# Altium integrated library TI Power Management Step-Up Regulator.IntLib: 226 symbols (part 3 of 11)
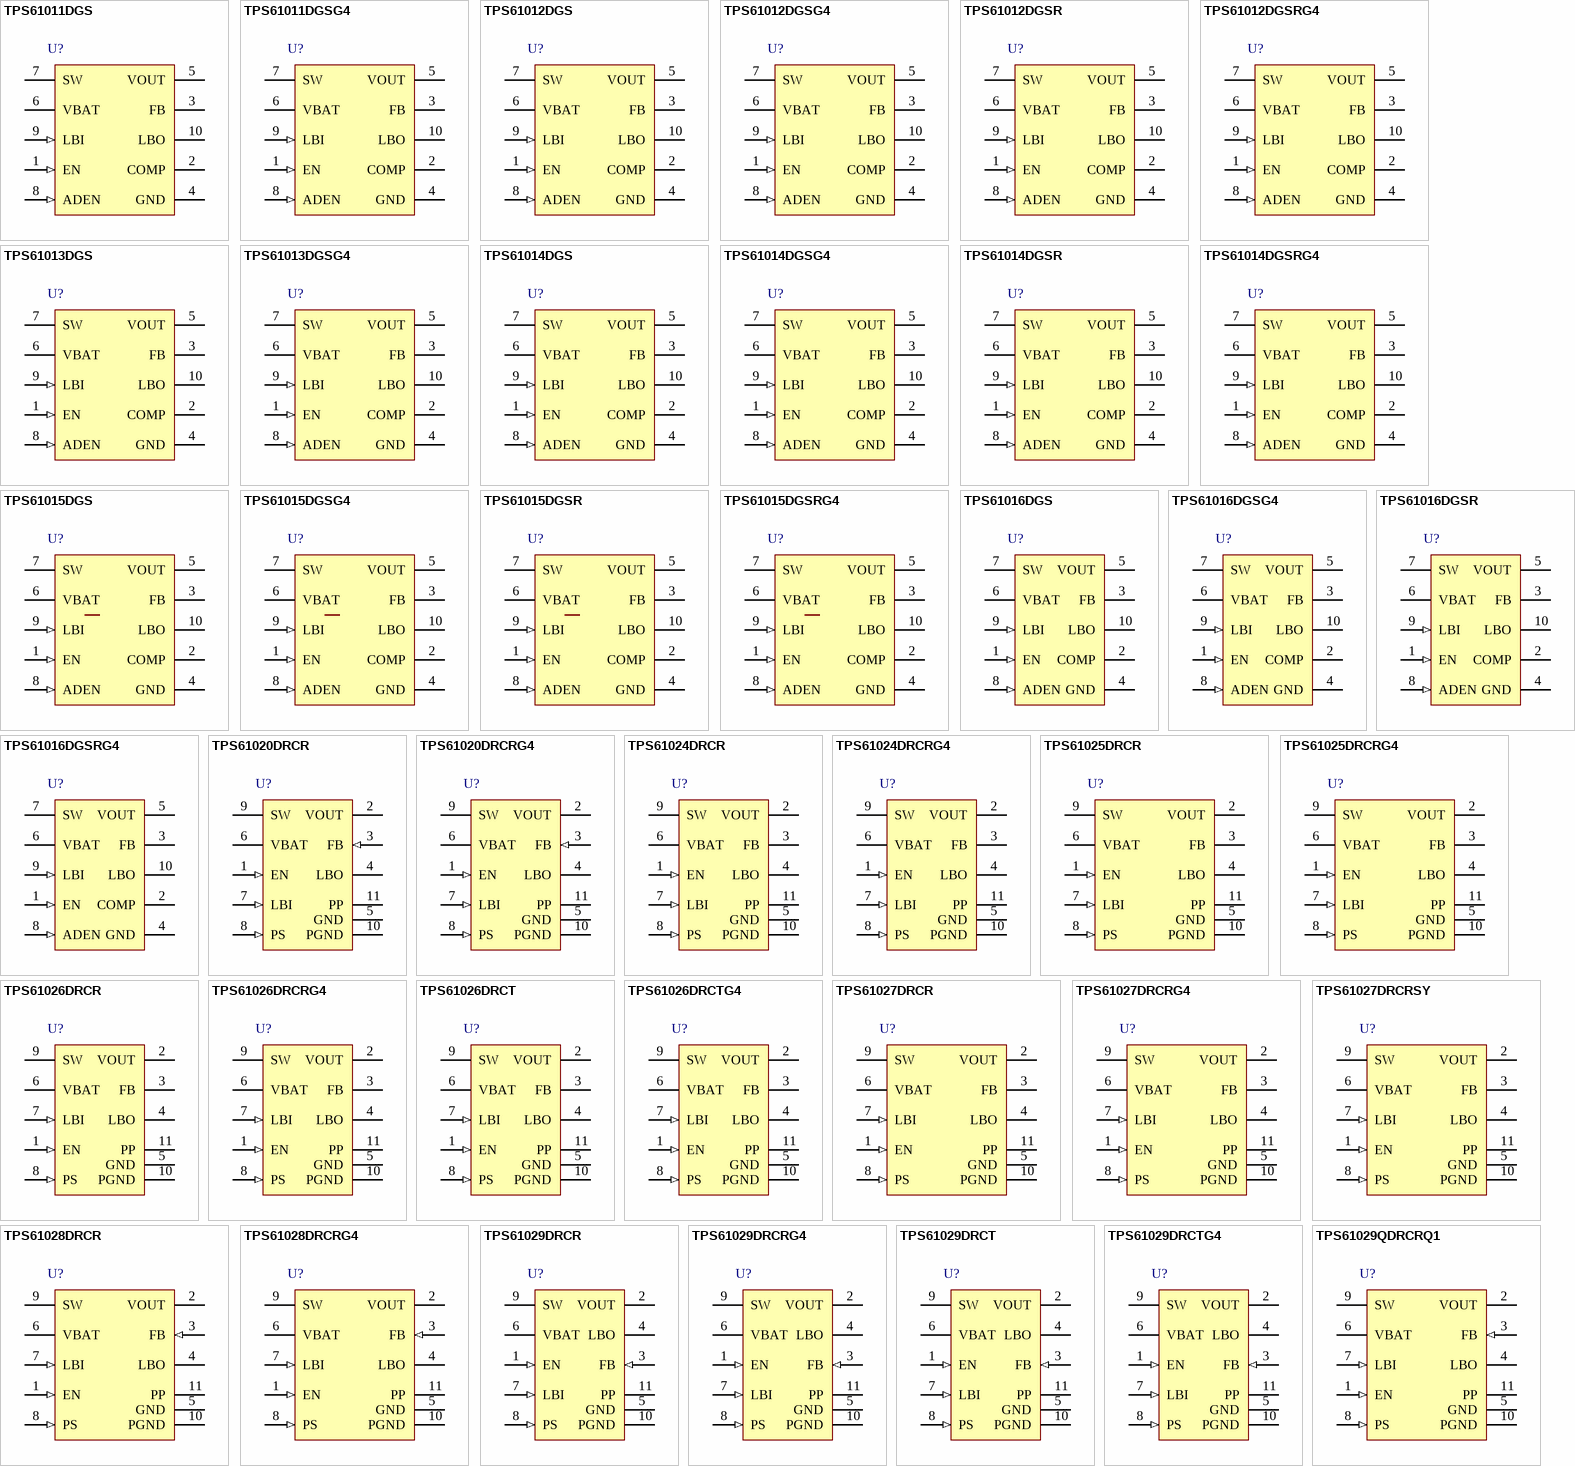
[diagram p8: symbols TPS61011DGS to TPS61029QDRCRQ1]

## TPS61012DGSR
designator U?
Boost Fixed Converter with 0.8 to 1.8 V Input and 1.8 V Output, -40 to 85 degC, 10-Pin MSOP (DGS), Green (RoHS & no Sb/Br); Manufacturer: Texas Instruments; PartNumber: TPS61012DGSR; Preset Vout(V): 1.8; Regulated Outputs(#): 1; SubFamily: Step-Up Regulator; Switching Frequency(Max)(kHz): 780; Synchronous Rectification: TRUE; Vin(Min)(V): 0.8; DatasheetVersion: SLVS314D; PackageVersion: revC, Feb-2004; PackageReference: DGS10; PackageDescription: 10-Pin Thin Shrink Small Outline Package 0.5 mm Pitch; Supplier 1: Digi-Key; Supplier Part Number 1: TPS61012DGSR-ND; Supplier 2: Newark; Supplier Part Number 2: 77C0660; Supplier 3: Mouser; Supplier Part Number 3: 595-TPS61012DGSR; Eco-Plan: Green (RoHS & no Sb/Br); Topology: Boost; Vin(Max)(V): 1.8; Vout(Max)(V): 1.8; Vout(Min)(V): 1.8; Mounting Technology: Surface Mount; Code_JEDEC: MO-187-BA; ComponentLink1Description: Datasheet; ComponentLink1URL: http://www.ti.com/general/docs/lit/getliterature.tsp?genericPartNumber=TPS61012&fileType=pdf; ComponentLink2Description: Package Specification; ComponentLink2URL: http://www.ti.com/litv/pdf/mpds373
footprint DGS10_N (TSSOP, 10-Leads, Body 3x3mm, Pitch 0.5mm, IPC Medium Density)
footprint DGS10_L (TSSOP, 10-Leads, Body 3x3mm, Pitch 0.5mm, IPC High Density)
footprint DGS10_M (TSSOP, 10-Leads, Body 3x3mm, Pitch 0.5mm, IPC Low Density)
pins: 1 EN (in) "Chip-enable input. The converter is switched on if this pin is set high, it is switched off if this pin is connected to GND.", 2 COMP "Compensation of error amplifier. Connect an R/C/C network to set frequency response of control loop.", 3 FB "Feedback input for adjustable output voltage version TPS61010. Output voltage is programmed depending on the output voltage divider connected there. For the fixed output voltage versions, leave FB-pin unconnected.", 4 GND (power) "Ground", 5 VOUT (power) "Output voltage. Internal resistor divider sets regulated output voltage in fixed output voltage versions.", 6 VBAT (power) "Supply pin", 7 SW (power) "Switch input pin. The inductor is connected to this pin.", 8 ADEN (in) "Autodischarge input. The autodischarge function is enabled if this pin is connected to VBAT, it is disabled if ADEN is tied to GND.", 9 LBI (in) "Low-battery detector input. A low battery warning is generated at LBO when the voltage on LBI drops below the threshold of 500 mV. Connect LBI to GND or VBAT if the low-battery detector function is not used. Do not leave (See Datasheet)", 10 LBO (hiz) "Open-drain low-battery detector output. This pin is pulled low if the voltage on LBI drops below the threshold of 500 mV. A pullup resistor must be connected between LBO and VOUT."

## TPS61012DGSRG4
designator U?
Boost Fixed Converter with 0.8 to 1.8 V Input and 1.8 V Output, -40 to 85 degC, 10-Pin MSOP (DGS), Green (RoHS & no Sb/Br); Manufacturer: Texas Instruments; PartNumber: TPS61012DGSRG4; Preset Vout(V): 1.8; Regulated Outputs(#): 1; SubFamily: Step-Up Regulator; Switching Frequency(Max)(kHz): 780; Synchronous Rectification: TRUE; Vin(Min)(V): 0.8; DatasheetVersion: SLVS314D; PackageVersion: revC, Feb-2004; PackageReference: DGS10; PackageDescription: 10-Pin Thin Shrink Small Outline Package 0.5 mm Pitch; Supplier 1: Digi-Key; Supplier Part Number 1: TPS61012DGSRG4-ND; Supplier 2: Newark; Supplier Part Number 2: 65J6903; Supplier 3: Mouser; Supplier Part Number 3: 595-TPS61012DGSRG4; Eco-Plan: Green (RoHS & no Sb/Br); Topology: Boost; Vin(Max)(V): 1.8; Vout(Max)(V): 1.8; Vout(Min)(V): 1.8; Mounting Technology: Surface Mount; Code_JEDEC: MO-187-BA; ComponentLink1Description: Datasheet; ComponentLink1URL: http://www.ti.com/general/docs/lit/getliterature.tsp?genericPartNumber=TPS61012&fileType=pdf; ComponentLink2Description: Package Specification; ComponentLink2URL: http://www.ti.com/litv/pdf/mpds373
footprint DGS10_N (TSSOP, 10-Leads, Body 3x3mm, Pitch 0.5mm, IPC Medium Density)
footprint DGS10_L (TSSOP, 10-Leads, Body 3x3mm, Pitch 0.5mm, IPC High Density)
footprint DGS10_M (TSSOP, 10-Leads, Body 3x3mm, Pitch 0.5mm, IPC Low Density)
pins: 1 EN (in) "Chip-enable input. The converter is switched on if this pin is set high, it is switched off if this pin is connected to GND.", 2 COMP "Compensation of error amplifier. Connect an R/C/C network to set frequency response of control loop.", 3 FB "Feedback input for adjustable output voltage version TPS61010. Output voltage is programmed depending on the output voltage divider connected there. For the fixed output voltage versions, leave FB-pin unconnected.", 4 GND (power) "Ground", 5 VOUT (power) "Output voltage. Internal resistor divider sets regulated output voltage in fixed output voltage versions.", 6 VBAT (power) "Supply pin", 7 SW (power) "Switch input pin. The inductor is connected to this pin.", 8 ADEN (in) "Autodischarge input. The autodischarge function is enabled if this pin is connected to VBAT, it is disabled if ADEN is tied to GND.", 9 LBI (in) "Low-battery detector input. A low battery warning is generated at LBO when the voltage on LBI drops below the threshold of 500 mV. Connect LBI to GND or VBAT if the low-battery detector function is not used. Do not leave (See Datasheet)", 10 LBO (hiz) "Open-drain low-battery detector output. This pin is pulled low if the voltage on LBI drops below the threshold of 500 mV. A pullup resistor must be connected between LBO and VOUT."

## TPS61013DGS
designator U?
Boost Fixed Converter with 0.8 to 2.5 V Input and 2.5 V Output, -40 to 85 degC, 10-Pin MSOP (DGS), Green (RoHS & no Sb/Br); Manufacturer: Texas Instruments; PartNumber: TPS61013DGS; Eco-Plan: TBD; Preset Vout(V): 2.5; Regulated Outputs(#): 1; SubFamily: Step-Up Regulator; Switching Frequency(Max)(kHz): 780; Synchronous Rectification: TRUE; Vin(Min)(V): 0.8; DatasheetVersion: SLVS314D; PackageVersion: revC, Feb-2004; PackageReference: DGS10; PackageDescription: 10-Pin Thin Shrink Small Outline Package 0.5 mm Pitch; Supplier 1: Digi-Key; Supplier Part Number 1: 296-10972-5-ND; Supplier 2: Newark; Supplier Part Number 2: 77C0661; Supplier 3: Mouser; Supplier Part Number 3: 595-TPS61013DGS; Topology: Boost; Vin(Max)(V): 2.5; Vout(Max)(V): 2.5; Vout(Min)(V): 2.5; Mounting Technology: Surface Mount; Code_JEDEC: MO-187-BA; ComponentLink1Description: Datasheet; ComponentLink1URL: http://www.ti.com/general/docs/lit/getliterature.tsp?genericPartNumber=TPS61013&fileType=pdf; ComponentLink2Description: Package Specification; ComponentLink2URL: http://www.ti.com/litv/pdf/mpds373
footprint DGS10_N (TSSOP, 10-Leads, Body 3x3mm, Pitch 0.5mm, IPC Medium Density)
footprint DGS10_L (TSSOP, 10-Leads, Body 3x3mm, Pitch 0.5mm, IPC High Density)
footprint DGS10_M (TSSOP, 10-Leads, Body 3x3mm, Pitch 0.5mm, IPC Low Density)
pins: 1 EN (in) "Chip-enable input. The converter is switched on if this pin is set high, it is switched off if this pin is connected to GND.", 2 COMP "Compensation of error amplifier. Connect an R/C/C network to set frequency response of control loop.", 3 FB "Feedback input for adjustable output voltage version TPS61010. Output voltage is programmed depending on the output voltage divider connected there. For the fixed output voltage versions, leave FB-pin unconnected.", 4 GND (power) "Ground", 5 VOUT (power) "Output voltage. Internal resistor divider sets regulated output voltage in fixed output voltage versions.", 6 VBAT (power) "Supply pin", 7 SW (power) "Switch input pin. The inductor is connected to this pin.", 8 ADEN (in) "Autodischarge input. The autodischarge function is enabled if this pin is connected to VBAT, it is disabled  if ADEN is tied to GND.", 9 LBI (in) "Low-battery detector input. A low battery warning is generated at LBO when the voltage on LBI drops below the threshold of 500 mV. Connect LBI to GND or VBAT if the low-battery detector function is not used. Do not leave (See Datasheet)", 10 LBO (hiz) "Open-drain low-battery detector output. This pin is pulled low if the voltage on LBI drops below the threshold of 500 mV. A pullup resistor must be connected between LBO and VOUT."

## TPS61013DGSG4
designator U?
Boost Fixed Converter with 0.8 to 2.5 V Input and 2.5 V Output, -40 to 85 degC, 10-Pin MSOP (DGS), Green (RoHS & no Sb/Br); Manufacturer: Texas Instruments; PartNumber: TPS61013DGSG4; Preset Vout(V): 2.5; Regulated Outputs(#): 1; SubFamily: Step-Up Regulator; Switching Frequency(Max)(kHz): 780; Synchronous Rectification: TRUE; Vin(Min)(V): 0.8; DatasheetVersion: SLVS314D; PackageVersion: revC, Feb-2004; PackageReference: DGS10; PackageDescription: 10-Pin Thin Shrink Small Outline Package 0.5 mm Pitch; Supplier 1: Digi-Key; Supplier Part Number 1: TPS61013DGSG4-ND; Supplier 2: Newark; Supplier Part Number 2: 85K1703; Supplier 3: Mouser; Supplier Part Number 3: 595-TPS61013DGSG4; Eco-Plan: Green (RoHS & no Sb/Br); Topology: Boost; Vin(Max)(V): 2.5; Vout(Max)(V): 2.5; Vout(Min)(V): 2.5; Mounting Technology: Surface Mount; Code_JEDEC: MO-187-BA; ComponentLink1Description: Datasheet; ComponentLink1URL: http://www.ti.com/general/docs/lit/getliterature.tsp?genericPartNumber=TPS61013&fileType=pdf; ComponentLink2Description: Package Specification; ComponentLink2URL: http://www.ti.com/litv/pdf/mpds373
footprint DGS10_N (TSSOP, 10-Leads, Body 3x3mm, Pitch 0.5mm, IPC Medium Density)
footprint DGS10_L (TSSOP, 10-Leads, Body 3x3mm, Pitch 0.5mm, IPC High Density)
footprint DGS10_M (TSSOP, 10-Leads, Body 3x3mm, Pitch 0.5mm, IPC Low Density)
pins: 1 EN (in) "Chip-enable input. The converter is switched on if this pin is set high, it is switched off if this pin is connected to GND.", 2 COMP "Compensation of error amplifier. Connect an R/C/C network to set frequency response of control loop.", 3 FB "Feedback input for adjustable output voltage version TPS61010. Output voltage is programmed depending on the output voltage divider connected there. For the fixed output voltage versions, leave FB-pin unconnected.", 4 GND (power) "Ground", 5 VOUT (power) "Output voltage. Internal resistor divider sets regulated output voltage in fixed output voltage versions.", 6 VBAT (power) "Supply pin", 7 SW (power) "Switch input pin. The inductor is connected to this pin.", 8 ADEN (in) "Autodischarge input. The autodischarge function is enabled if this pin is connected to VBAT, it is disabled  if ADEN is tied to GND.", 9 LBI (in) "Low-battery detector input. A low battery warning is generated at LBO when the voltage on LBI drops below the threshold of 500 mV. Connect LBI to GND or VBAT if the low-battery detector function is not used. Do not leave (See Datasheet)", 10 LBO (hiz) "Open-drain low-battery detector output. This pin is pulled low if the voltage on LBI drops below the threshold of 500 mV. A pullup resistor must be connected between LBO and VOUT."

## TPS61014DGS
designator U?
Boost Fixed Converter with 0.8 to 2.8 V Input and 2.8 V Output, -40 to 85 degC, 10-Pin MSOP (DGS), Green (RoHS & no Sb/Br); Manufacturer: Texas Instruments; PartNumber: TPS61014DGS; Preset Vout(V): 2.8; Regulated Outputs(#): 1; SubFamily: Step-Up Regulator; Switching Frequency(Max)(kHz): 780; Synchronous Rectification: TRUE; Vin(Min)(V): 0.8; DatasheetVersion: SLVS314D; PackageVersion: revC, Feb-2004; PackageReference: DGS10; PackageDescription: 10-Pin Thin Shrink Small Outline Package 0.5 mm Pitch; Supplier 1: Digi-Key; Supplier Part Number 1: 296-10973-5-ND; Supplier 2: Newark; Supplier Part Number 2: 77C0664; Supplier 3: Mouser; Supplier Part Number 3: 595-TPS61014DGS; Eco-Plan: Green (RoHS & no Sb/Br); Topology: Boost; Vin(Max)(V): 2.8; Vout(Max)(V): 2.8; Vout(Min)(V): 2.8; Mounting Technology: Surface Mount; Code_JEDEC: MO-187-BA; ComponentLink1Description: Datasheet; ComponentLink1URL: http://www.ti.com/general/docs/lit/getliterature.tsp?genericPartNumber=TPS61014&fileType=pdf; ComponentLink2Description: Package Specification; ComponentLink2URL: http://www.ti.com/litv/pdf/mpds373
footprint DGS10_N (TSSOP, 10-Leads, Body 3x3mm, Pitch 0.5mm, IPC Medium Density)
footprint DGS10_L (TSSOP, 10-Leads, Body 3x3mm, Pitch 0.5mm, IPC High Density)
footprint DGS10_M (TSSOP, 10-Leads, Body 3x3mm, Pitch 0.5mm, IPC Low Density)
pins: 1 EN (in) "Chip-enable input. The converter is switched on if this pin is set high, it is switched off if this pin is connected to GND.", 2 COMP "Compensation of error amplifier. Connect an R/C/C network to set frequency response of control loop.", 3 FB "Feedback input for adjustable output voltage version TPS61010. Output voltage is programmed depending on the output voltage divider connected there. For the fixed output voltage versions, leave FB-pin unconnected.", 4 GND (power) "Ground", 5 VOUT (power) "Output voltage. Internal resistor divider sets regulated output voltage in fixed output voltage versions.", 6 VBAT (power) "Supply pin", 7 SW (power) "Switch input pin. The inductor is connected to this pin.", 8 ADEN (in) "Autodischarge input. The autodischarge function is enabled if this pin is connected to VBAT, it is disabled if ADEN is tied to GND.", 9 LBI (in) "Low-battery detector input. A low battery warning is generated at LBO when the voltage on LBI drops below the threshold of 500 mV. Connect LBI to GND or VBAT if the low-battery detector function is not used. Do not leave (See Datasheet)", 10 LBO (hiz) "Open-drain low-battery detector output. This pin is pulled low if the voltage on LBI drops below the threshold of 500 mV. A pullup resistor must be connected between LBO and VOUT."

## TPS61014DGSG4
designator U?
Boost Fixed Converter with 0.8 to 2.8 V Input and 2.8 V Output, -40 to 85 degC, 10-Pin MSOP (DGS), Green (RoHS & no Sb/Br); Manufacturer: Texas Instruments; PartNumber: TPS61014DGSG4; Eco-Plan: TBD; Preset Vout(V): 2.8; Regulated Outputs(#): 1; SubFamily: Step-Up Regulator; Switching Frequency(Max)(kHz): 780; Synchronous Rectification: TRUE; Vin(Min)(V): 0.8; DatasheetVersion: SLVS314D; PackageVersion: revC, Feb-2004; PackageReference: DGS10; PackageDescription: 10-Pin Thin Shrink Small Outline Package 0.5 mm Pitch; Supplier 1: Digi-Key; Supplier Part Number 1: TPS61014DGSG4-ND; Supplier 2: Newark; Supplier Part Number 2: 61K1895; Supplier 3: Mouser; Supplier Part Number 3: 595-TPS61014DGSG4; Topology: Boost; Vin(Max)(V): 2.8; Vout(Max)(V): 2.8; Vout(Min)(V): 2.8; Mounting Technology: Surface Mount; Code_JEDEC: MO-187-BA; ComponentLink1Description: Datasheet; ComponentLink1URL: http://www.ti.com/general/docs/lit/getliterature.tsp?genericPartNumber=TPS61014&fileType=pdf; ComponentLink2Description: Package Specification; ComponentLink2URL: http://www.ti.com/litv/pdf/mpds373
footprint DGS10_N (TSSOP, 10-Leads, Body 3x3mm, Pitch 0.5mm, IPC Medium Density)
footprint DGS10_L (TSSOP, 10-Leads, Body 3x3mm, Pitch 0.5mm, IPC High Density)
footprint DGS10_M (TSSOP, 10-Leads, Body 3x3mm, Pitch 0.5mm, IPC Low Density)
pins: 1 EN (in) "Chip-enable input. The converter is switched on if this pin is set high, it is switched off if this pin is connected to GND.", 2 COMP "Compensation of error amplifier. Connect an R/C/C network to set frequency response of control loop.", 3 FB "Feedback input for adjustable output voltage version TPS61010. Output voltage is programmed depending on the output voltage divider connected there. For the fixed output voltage versions, leave FB-pin unconnected.", 4 GND (power) "Ground", 5 VOUT (power) "Output voltage. Internal resistor divider sets regulated output voltage in fixed output voltage versions.", 6 VBAT (power) "Supply pin", 7 SW (power) "Switch input pin. The inductor is connected to this pin.", 8 ADEN (in) "Autodischarge input. The autodischarge function is enabled if this pin is connected to VBAT, it is disabled if ADEN is tied to GND.", 9 LBI (in) "Low-battery detector input. A low battery warning is generated at LBO when the voltage on LBI drops below the threshold of 500 mV. Connect LBI to GND or VBAT if the low-battery detector function is not used. Do not leave (See Datasheet)", 10 LBO (hiz) "Open-drain low-battery detector output. This pin is pulled low if the voltage on LBI drops below the threshold of 500 mV. A pullup resistor must be connected between LBO and VOUT."

## TPS61014DGSR
designator U?
Boost Fixed Converter with 0.8 to 2.8 V Input and 2.8 V Output, -40 to 85 degC, 10-Pin MSOP (DGS), Green (RoHS & no Sb/Br); Manufacturer: Texas Instruments; PartNumber: TPS61014DGSR; Eco-Plan: TBD; Preset Vout(V): 2.8; Regulated Outputs(#): 1; SubFamily: Step-Up Regulator; Switching Frequency(Max)(kHz): 780; Synchronous Rectification: TRUE; Vin(Min)(V): 0.8; DatasheetVersion: SLVS314D; PackageVersion: revC, Feb-2004; PackageReference: DGS10; PackageDescription: 10-Pin Thin Shrink Small Outline Package 0.5 mm Pitch; Supplier 1: Digi-Key; Supplier Part Number 1: TPS61014DGSR-ND; Supplier 2: Newark; Supplier Part Number 2: 77C0665; Supplier 3: Mouser; Supplier Part Number 3: 595-TPS61014DGSR; Topology: Boost; Vin(Max)(V): 2.8; Vout(Max)(V): 2.8; Vout(Min)(V): 2.8; Mounting Technology: Surface Mount; Code_JEDEC: MO-187-BA; ComponentLink1Description: Datasheet; ComponentLink1URL: http://www.ti.com/general/docs/lit/getliterature.tsp?genericPartNumber=TPS61014&fileType=pdf; ComponentLink2Description: Package Specification; ComponentLink2URL: http://www.ti.com/litv/pdf/mpds373
footprint DGS10_N (TSSOP, 10-Leads, Body 3x3mm, Pitch 0.5mm, IPC Medium Density)
footprint DGS10_L (TSSOP, 10-Leads, Body 3x3mm, Pitch 0.5mm, IPC High Density)
footprint DGS10_M (TSSOP, 10-Leads, Body 3x3mm, Pitch 0.5mm, IPC Low Density)
pins: 1 EN (in) "Chip-enable input. The converter is switched on if this pin is set high, it is switched off if this pin is connected to GND.", 2 COMP "Compensation of error amplifier. Connect an R/C/C network to set frequency response of control loop.", 3 FB "Feedback input for adjustable output voltage version TPS61010. Output voltage is programmed depending on the output voltage divider connected there. For the fixed output voltage versions, leave FB-pin unconnected.", 4 GND (power) "Ground", 5 VOUT (power) "Output voltage. Internal resistor divider sets regulated output voltage in fixed output voltage versions.", 6 VBAT (power) "Supply pin", 7 SW (power) "Switch input pin. The inductor is connected to this pin.", 8 ADEN (in) "Autodischarge input. The autodischarge function is enabled if this pin is connected to VBAT, it is disabled if ADEN is tied to GND.", 9 LBI (in) "Low-battery detector input. A low battery warning is generated at LBO when the voltage on LBI drops below the threshold of 500 mV. Connect LBI to GND or VBAT if the low-battery detector function is not used. Do not leave (See Datasheet)", 10 LBO (hiz) "Open-drain low-battery detector output. This pin is pulled low if the voltage on LBI drops below the threshold of 500 mV. A pullup resistor must be connected between LBO and VOUT."

## TPS61014DGSRG4
designator U?
Boost Fixed Converter with 0.8 to 2.8 V Input and 2.8 V Output, -40 to 85 degC, 10-Pin MSOP (DGS), Green (RoHS & no Sb/Br); Manufacturer: Texas Instruments; PartNumber: TPS61014DGSRG4; Eco-Plan: TBD; Preset Vout(V): 2.8; Regulated Outputs(#): 1; SubFamily: Step-Up Regulator; Switching Frequency(Max)(kHz): 780; Synchronous Rectification: TRUE; Vin(Min)(V): 0.8; DatasheetVersion: SLVS314D; PackageVersion: revC, Feb-2004; PackageReference: DGS10; PackageDescription: 10-Pin Thin Shrink Small Outline Package 0.5 mm Pitch; Supplier 1: Digi-Key; Supplier Part Number 1: TPS61014DGSRG4-ND; Supplier 2: Newark; Supplier Part Number 2: 71J8181; Supplier 3: Mouser; Supplier Part Number 3: 595-TPS61014DGSRG4; Topology: Boost; Vin(Max)(V): 2.8; Vout(Max)(V): 2.8; Vout(Min)(V): 2.8; Mounting Technology: Surface Mount; Code_JEDEC: MO-187-BA; ComponentLink1Description: Datasheet; ComponentLink1URL: http://www.ti.com/general/docs/lit/getliterature.tsp?genericPartNumber=TPS61014&fileType=pdf; ComponentLink2Description: Package Specification; ComponentLink2URL: http://www.ti.com/litv/pdf/mpds373
footprint DGS10_N (TSSOP, 10-Leads, Body 3x3mm, Pitch 0.5mm, IPC Medium Density)
footprint DGS10_L (TSSOP, 10-Leads, Body 3x3mm, Pitch 0.5mm, IPC High Density)
footprint DGS10_M (TSSOP, 10-Leads, Body 3x3mm, Pitch 0.5mm, IPC Low Density)
pins: 1 EN (in) "Chip-enable input. The converter is switched on if this pin is set high, it is switched off if this pin is connected to GND.", 2 COMP "Compensation of error amplifier. Connect an R/C/C network to set frequency response of control loop.", 3 FB "Feedback input for adjustable output voltage version TPS61010. Output voltage is programmed depending on the output voltage divider connected there. For the fixed output voltage versions, leave FB-pin unconnected.", 4 GND (power) "Ground", 5 VOUT (power) "Output voltage. Internal resistor divider sets regulated output voltage in fixed output voltage versions.", 6 VBAT (power) "Supply pin", 7 SW (power) "Switch input pin. The inductor is connected to this pin.", 8 ADEN (in) "Autodischarge input. The autodischarge function is enabled if this pin is connected to VBAT, it is disabled if ADEN is tied to GND.", 9 LBI (in) "Low-battery detector input. A low battery warning is generated at LBO when the voltage on LBI drops below the threshold of 500 mV. Connect LBI to GND or VBAT if the low-battery detector function is not used. Do not leave (See Datasheet)", 10 LBO (hiz) "Open-drain low-battery detector output. This pin is pulled low if the voltage on LBI drops below the threshold of 500 mV. A pullup resistor must be connected between LBO and VOUT."

## TPS61015DGS
designator U?
Boost Fixed Converter with 0.8 to 3 V Input and 3 V Output, -40 to 85 degC, 10-Pin MSOP (DGS), Green (RoHS & no Sb/Br); Manufacturer: Texas Instruments; PartNumber: TPS61015DGS; Eco-Plan: TBD; Preset Vout(V): 3; Regulated Outputs(#): 1; SubFamily: Step-Up Regulator; Switching Frequency(Max)(kHz): 780; Synchronous Rectification: TRUE; Vin(Min)(V): 0.8; DatasheetVersion: SLVS314D; PackageVersion: revC, Feb-2004; PackageReference: DGS10; PackageDescription: 10-Pin Thin Shrink Small Outline Package 0.5 mm Pitch; Supplier 1: Digi-Key; Supplier Part Number 1: 296-10974-5-ND; Supplier 2: Newark; Supplier Part Number 2: 29C8520; Supplier 3: Mouser; Supplier Part Number 3: 595-TPS61015DGS; Topology: Boost; Vin(Max)(V): 3; Vout(Max)(V): 3; Vout(Min)(V): 3; Mounting Technology: Surface Mount; Code_JEDEC: MO-187-BA; ComponentLink1Description: Datasheet; ComponentLink1URL: http://www.ti.com/general/docs/lit/getliterature.tsp?genericPartNumber=TPS61015&fileType=pdf; ComponentLink2Description: Package Specification; ComponentLink2URL: http://www.ti.com/litv/pdf/mpds373
footprint DGS10_N (TSSOP, 10-Leads, Body 3x3mm, Pitch 0.5mm, IPC Medium Density)
footprint DGS10_L (TSSOP, 10-Leads, Body 3x3mm, Pitch 0.5mm, IPC High Density)
footprint DGS10_M (TSSOP, 10-Leads, Body 3x3mm, Pitch 0.5mm, IPC Low Density)
pins: 1 EN (in) "Chip-enable input. The converter is switched on if this pin is set high, it is switched off if this pin is connected to GND.", 2 COMP "Compensation of error amplifier. Connect an R/C/C network to set frequency response of control loop.", 3 FB "Feedback input for adjustable output voltage version TPS61010. Output voltage is programmed depending on the output voltage divider connected there. For the fixed output voltage versions, leave FB-pin unconnected.", 4 GND (power) "Ground", 5 VOUT (power) "Output voltage. Internal resistor divider sets regulated output voltage in fixed output voltage versions.", 6 VBAT (power) "Supply pin", 7 SW (power) "Switch input pin. The inductor is connected to this pin.", 8 ADEN (in) "Autodischarge input. The autodischarge function is enabled if this pin is connected to VBAT, it is disabled if ADEN is tied to GND.", 9 LBI (in) "Low-battery detector input. A low battery warning is generated at LBO when the voltage on LBI drops below the threshold of 500 mV. Connect LBI to GND or VBAT if the low-battery detector function is not used. Do not leave (See Datasheet)", 10 LBO (hiz) "Open-drain low-battery detector output. This pin is pulled low if the voltage on LBI drops below the threshold of 500 mV. A pullup resistor must be connected between LBO and VOUT."

## TPS61015DGSG4
designator U?
Boost Fixed Converter with 0.8 to 3 V Input and 3 V Output, -40 to 85 degC, 10-Pin MSOP (DGS), Green (RoHS & no Sb/Br); Manufacturer: Texas Instruments; PartNumber: TPS61015DGSG4; Eco-Plan: TBD; Preset Vout(V): 3; Regulated Outputs(#): 1; SubFamily: Step-Up Regulator; Switching Frequency(Max)(kHz): 780; Synchronous Rectification: TRUE; Vin(Min)(V): 0.8; DatasheetVersion: SLVS314D; PackageVersion: revC, Feb-2004; PackageReference: DGS10; PackageDescription: 10-Pin Thin Shrink Small Outline Package 0.5 mm Pitch; Supplier 1: Digi-Key; Supplier Part Number 1: TPS61015DGSG4-ND; Supplier 2: Newark; Supplier Part Number 2: 24K6020; Supplier 3: Mouser; Supplier Part Number 3: 595-TPS61015DGSG4; Topology: Boost; Vin(Max)(V): 3; Vout(Max)(V): 3; Vout(Min)(V): 3; Mounting Technology: Surface Mount; Code_JEDEC: MO-187-BA; ComponentLink1Description: Datasheet; ComponentLink1URL: http://www.ti.com/general/docs/lit/getliterature.tsp?genericPartNumber=TPS61015&fileType=pdf; ComponentLink2Description: Package Specification; ComponentLink2URL: http://www.ti.com/litv/pdf/mpds373
footprint DGS10_N (TSSOP, 10-Leads, Body 3x3mm, Pitch 0.5mm, IPC Medium Density)
footprint DGS10_L (TSSOP, 10-Leads, Body 3x3mm, Pitch 0.5mm, IPC High Density)
footprint DGS10_M (TSSOP, 10-Leads, Body 3x3mm, Pitch 0.5mm, IPC Low Density)
pins: 1 EN (in) "Chip-enable input. The converter is switched on if this pin is set high, it is switched off if this pin is connected to GND.", 2 COMP "Compensation of error amplifier. Connect an R/C/C network to set frequency response of control loop.", 3 FB "Feedback input for adjustable output voltage version TPS61010. Output voltage is programmed depending on the output voltage divider connected there. For the fixed output voltage versions, leave FB-pin unconnected.", 4 GND (power) "Ground", 5 VOUT (power) "Output voltage. Internal resistor divider sets regulated output voltage in fixed output voltage versions.", 6 VBAT (power) "Supply pin", 7 SW (power) "Switch input pin. The inductor is connected to this pin.", 8 ADEN (in) "Autodischarge input. The autodischarge function is enabled if this pin is connected to VBAT, it is disabled if ADEN is tied to GND.", 9 LBI (in) "Low-battery detector input. A low battery warning is generated at LBO when the voltage on LBI drops below the threshold of 500 mV. Connect LBI to GND or VBAT if the low-battery detector function is not used. Do not leave (See Datasheet)", 10 LBO (hiz) "Open-drain low-battery detector output. This pin is pulled low if the voltage on LBI drops below the threshold of 500 mV. A pullup resistor must be connected between LBO and VOUT."

## TPS61015DGSR
designator U?
Boost Fixed Converter with 0.8 to 3 V Input and 3 V Output, -40 to 85 degC, 10-Pin MSOP (DGS), Green (RoHS & no Sb/Br); Manufacturer: Texas Instruments; PartNumber: TPS61015DGSR; Eco-Plan: TBD; Preset Vout(V): 3; Regulated Outputs(#): 1; SubFamily: Step-Up Regulator; Switching Frequency(Max)(kHz): 780; Synchronous Rectification: TRUE; Vin(Min)(V): 0.8; DatasheetVersion: SLVS314D; PackageVersion: revC, Feb-2004; PackageReference: DGS10; PackageDescription: 10-Pin Thin Shrink Small Outline Package 0.5 mm Pitch; Supplier 1: Digi-Key; Supplier Part Number 1: TPS61015DGSR-ND; Supplier 2: Newark; Supplier Part Number 2: 77C0666; Supplier 3: Mouser; Supplier Part Number 3: 595-TPS61015DGSR; Topology: Boost; Vin(Max)(V): 3; Vout(Max)(V): 3; Vout(Min)(V): 3; Mounting Technology: Surface Mount; Code_JEDEC: MO-187-BA; ComponentLink1Description: Datasheet; ComponentLink1URL: http://www.ti.com/general/docs/lit/getliterature.tsp?genericPartNumber=TPS61015&fileType=pdf; ComponentLink2Description: Package Specification; ComponentLink2URL: http://www.ti.com/litv/pdf/mpds373
footprint DGS10_N (TSSOP, 10-Leads, Body 3x3mm, Pitch 0.5mm, IPC Medium Density)
footprint DGS10_L (TSSOP, 10-Leads, Body 3x3mm, Pitch 0.5mm, IPC High Density)
footprint DGS10_M (TSSOP, 10-Leads, Body 3x3mm, Pitch 0.5mm, IPC Low Density)
pins: 1 EN (in) "Chip-enable input. The converter is switched on if this pin is set high, it is switched off if this pin is connected to GND.", 2 COMP "Compensation of error amplifier. Connect an R/C/C network to set frequency response of control loop.", 3 FB "Feedback input for adjustable output voltage version TPS61010. Output voltage is programmed depending on the output voltage divider connected there. For the fixed output voltage versions, leave FB-pin unconnected.", 4 GND (power) "Ground", 5 VOUT (power) "Output voltage. Internal resistor divider sets regulated output voltage in fixed output voltage versions.", 6 VBAT (power) "Supply pin", 7 SW (power) "Switch input pin. The inductor is connected to this pin.", 8 ADEN (in) "Autodischarge input. The autodischarge function is enabled if this pin is connected to VBAT, it is disabled if ADEN is tied to GND.", 9 LBI (in) "Low-battery detector input. A low battery warning is generated at LBO when the voltage on LBI drops below the threshold of 500 mV. Connect LBI to GND or VBAT if the low-battery detector function is not used. Do not leave (See Datasheet)", 10 LBO (hiz) "Open-drain low-battery detector output. This pin is pulled low if the voltage on LBI drops below the threshold of 500 mV. A pullup resistor must be connected between LBO and VOUT."

## TPS61015DGSRG4
designator U?
Boost Fixed Converter with 0.8 to 3 V Input and 3 V Output, -40 to 85 degC, 10-Pin MSOP (DGS), Green (RoHS & no Sb/Br); Manufacturer: Texas Instruments; PartNumber: TPS61015DGSRG4; Eco-Plan: TBD; Preset Vout(V): 3; Regulated Outputs(#): 1; SubFamily: Step-Up Regulator; Switching Frequency(Max)(kHz): 780; Synchronous Rectification: TRUE; Vin(Min)(V): 0.8; DatasheetVersion: SLVS314D; PackageVersion: revC, Feb-2004; PackageReference: DGS10; PackageDescription: 10-Pin Thin Shrink Small Outline Package 0.5 mm Pitch; Supplier 1: Digi-Key; Supplier Part Number 1: TPS61015DGSRG4-ND; Supplier 2: Newark; Supplier Part Number 2: 71J8182; Supplier 3: Mouser; Supplier Part Number 3: 595-TPS61015DGSRG4; Topology: Boost; Vin(Max)(V): 3; Vout(Max)(V): 3; Vout(Min)(V): 3; Mounting Technology: Surface Mount; Code_JEDEC: MO-187-BA; ComponentLink1Description: Datasheet; ComponentLink1URL: http://www.ti.com/general/docs/lit/getliterature.tsp?genericPartNumber=TPS61015&fileType=pdf; ComponentLink2Description: Package Specification; ComponentLink2URL: http://www.ti.com/litv/pdf/mpds373
footprint DGS10_N (TSSOP, 10-Leads, Body 3x3mm, Pitch 0.5mm, IPC Medium Density)
footprint DGS10_L (TSSOP, 10-Leads, Body 3x3mm, Pitch 0.5mm, IPC High Density)
footprint DGS10_M (TSSOP, 10-Leads, Body 3x3mm, Pitch 0.5mm, IPC Low Density)
pins: 1 EN (in) "Chip-enable input. The converter is switched on if this pin is set high, it is switched off if this pin is connected to GND.", 2 COMP "Compensation of error amplifier. Connect an R/C/C network to set frequency response of control loop.", 3 FB "Feedback input for adjustable output voltage version TPS61010. Output voltage is programmed depending on the output voltage divider connected there. For the fixed output voltage versions, leave FB-pin unconnected.", 4 GND (power) "Ground", 5 VOUT (power) "Output voltage. Internal resistor divider sets regulated output voltage in fixed output voltage versions.", 6 VBAT (power) "Supply pin", 7 SW (power) "Switch input pin. The inductor is connected to this pin.", 8 ADEN (in) "Autodischarge input. The autodischarge function is enabled if this pin is connected to VBAT, it is disabled if ADEN is tied to GND.", 9 LBI (in) "Low-battery detector input. A low battery warning is generated at LBO when the voltage on LBI drops below the threshold of 500 mV. Connect LBI to GND or VBAT if the low-battery detector function is not used. Do not leave (See Datasheet)", 10 LBO (hiz) "Open-drain low-battery detector output. This pin is pulled low if the voltage on LBI drops below the threshold of 500 mV. A pullup resistor must be connected between LBO and VOUT."

## TPS61016DGS
designator U?
Boost Fixed Converter with 0.8 to 3.3 V Input and 3.3 V Output, -40 to 85 degC, 10-Pin MSOP (DGS); Manufacturer: Texas Instruments; PartNumber: TPS61016DGS; Eco-Plan: TBD; Preset Vout(V): 3.3; Regulated Outputs(#): 1; SubFamily: Step-Up Regulator; Switching Frequency(Max)(kHz): 780; Synchronous Rectification: TRUE; Vin(Min)(V): 0.8; DatasheetVersion: SLVS314D; PackageVersion: revC, Feb-2004; PackageReference: DGS10; PackageDescription: 10-Pin Thin Shrink Small Outline Package 0.5 mm Pitch; Supplier 1: Digi-Key; Supplier Part Number 1: 296-10975-5-ND; Supplier 2: Farnell; Supplier Part Number 2: 8457816; Supplier 3: Newark; Supplier Part Number 3: 77C0668; Supplier 4: Mouser; Supplier Part Number 4: 595-TPS61016DGS; Topology: Boost; Vin(Max)(V): 3.3; Vout(Max)(V): 3.3; Vout(Min)(V): 3.3; Mounting Technology: Surface Mount; Code_JEDEC: MO-187-BA; ComponentLink1Description: Datasheet; ComponentLink1URL: http://www.ti.com/general/docs/lit/getliterature.tsp?genericPartNumber=TPS61016&fileType=pdf; ComponentLink2Description: Package Specification; ComponentLink2URL: http://www.ti.com/litv/pdf/mpds373
footprint DGS10_N (TSSOP, 10-Leads, Body 3x3mm, Pitch 0.5mm, IPC Medium Density)
footprint DGS10_L (TSSOP, 10-Leads, Body 3x3mm, Pitch 0.5mm, IPC High Density)
footprint DGS10_M (TSSOP, 10-Leads, Body 3x3mm, Pitch 0.5mm, IPC Low Density)
pins: 1 EN (in) "Chip-enable input. The converter is switched on if this pin is set high, it is switched off if this pin is connected to GND.", 2 COMP "Compensation of error amplifier. Connect an R/C/C network to set frequency response of control loop.", 3 FB "Feedback input for adjustable output voltage version TPS61010. Output voltage is programmed depending on the output voltage divider connected there. For the fixed output voltage versions, leave FB-pin unconnected.", 4 GND (power) "Ground", 5 VOUT (power) "Output voltage. Internal resistor divider sets regulated output voltage in fixed output voltage versions.", 6 VBAT (power) "Supply pin", 7 SW (power) "Switch input pin. The inductor is connected to this pin.", 8 ADEN (in) "Autodischarge input. The autodischarge function is enabled if this pin is connected to VBAT, it is disabled if ADEN is tied to GND.", 9 LBI (in) "Low-battery detector input. A low battery warning is generated at LBO when the voltage on LBI drops below the threshold of 500 mV. Connect LBI to GND or VBAT if the low-battery detector function is not used. Do not leave (See Datasheet)", 10 LBO (hiz) "Open-drain low-battery detector output. This pin is pulled low if the voltage on LBI drops below the threshold of 500 mV. A pullup resistor must be connected between LBO and VOUT."

## TPS61016DGSG4
designator U?
Boost Fixed Converter with 0.8 to 3.3 V Input and 3.3 V Output, -40 to 85 degC, 10-Pin MSOP (DGS); Manufacturer: Texas Instruments; PartNumber: TPS61016DGSG4; Eco-Plan: TBD; Preset Vout(V): 3.3; Regulated Outputs(#): 1; SubFamily: Step-Up Regulator; Switching Frequency(Max)(kHz): 780; Synchronous Rectification: TRUE; Vin(Min)(V): 0.8; DatasheetVersion: SLVS314D; PackageVersion: revC, Feb-2004; PackageReference: DGS10; PackageDescription: 10-Pin Thin Shrink Small Outline Package 0.5 mm Pitch; Supplier 1: Digi-Key; Supplier Part Number 1: TPS61016DGSG4-ND; Supplier 2: Newark; Supplier Part Number 2: 71J8183; Supplier 3: Mouser; Supplier Part Number 3: 595-TPS61016DGSG4; Topology: Boost; Vin(Max)(V): 3.3; Vout(Max)(V): 3.3; Vout(Min)(V): 3.3; Mounting Technology: Surface Mount; Code_JEDEC: MO-187-BA; ComponentLink1Description: Datasheet; ComponentLink1URL: http://www.ti.com/general/docs/lit/getliterature.tsp?genericPartNumber=TPS61016&fileType=pdf; ComponentLink2Description: Package Specification; ComponentLink2URL: http://www.ti.com/litv/pdf/mpds373
footprint DGS10_N (TSSOP, 10-Leads, Body 3x3mm, Pitch 0.5mm, IPC Medium Density)
footprint DGS10_L (TSSOP, 10-Leads, Body 3x3mm, Pitch 0.5mm, IPC High Density)
footprint DGS10_M (TSSOP, 10-Leads, Body 3x3mm, Pitch 0.5mm, IPC Low Density)
pins: 1 EN (in) "Chip-enable input. The converter is switched on if this pin is set high, it is switched off if this pin is connected to GND.", 2 COMP "Compensation of error amplifier. Connect an R/C/C network to set frequency response of control loop.", 3 FB "Feedback input for adjustable output voltage version TPS61010. Output voltage is programmed depending on the output voltage divider connected there. For the fixed output voltage versions, leave FB-pin unconnected.", 4 GND (power) "Ground", 5 VOUT (power) "Output voltage. Internal resistor divider sets regulated output voltage in fixed output voltage versions.", 6 VBAT (power) "Supply pin", 7 SW (power) "Switch input pin. The inductor is connected to this pin.", 8 ADEN (in) "Autodischarge input. The autodischarge function is enabled if this pin is connected to VBAT, it is disabled if ADEN is tied to GND.", 9 LBI (in) "Low-battery detector input. A low battery warning is generated at LBO when the voltage on LBI drops below the threshold of 500 mV. Connect LBI to GND or VBAT if the low-battery detector function is not used. Do not leave (See Datasheet)", 10 LBO (hiz) "Open-drain low-battery detector output. This pin is pulled low if the voltage on LBI drops below the threshold of 500 mV. A pullup resistor must be connected between LBO and VOUT."

## TPS61016DGSR
designator U?
Boost Fixed Converter with 0.8 to 3.3 V Input and 3.3 V Output, -40 to 85 degC, 10-Pin MSOP (DGS); Manufacturer: Texas Instruments; PartNumber: TPS61016DGSR; Eco-Plan: TBD; Preset Vout(V): 3.3; Regulated Outputs(#): 1; SubFamily: Step-Up Regulator; Switching Frequency(Max)(kHz): 780; Synchronous Rectification: TRUE; Vin(Min)(V): 0.8; DatasheetVersion: SLVS314D; PackageVersion: revC, Feb-2004; PackageReference: DGS10; PackageDescription: 10-Pin Thin Shrink Small Outline Package 0.5 mm Pitch; Supplier 1: Digi-Key; Supplier Part Number 1: TPS61016DGSR-ND; Supplier 2: Newark; Supplier Part Number 2: 77C0669; Supplier 3: Mouser; Supplier Part Number 3: 595-TPS61016DGSR; Topology: Boost; Vin(Max)(V): 3.3; Vout(Max)(V): 3.3; Vout(Min)(V): 3.3; Mounting Technology: Surface Mount; Code_JEDEC: MO-187-BA; ComponentLink1Description: Datasheet; ComponentLink1URL: http://www.ti.com/general/docs/lit/getliterature.tsp?genericPartNumber=TPS61016&fileType=pdf; ComponentLink2Description: Package Specification; ComponentLink2URL: http://www.ti.com/litv/pdf/mpds373
footprint DGS10_N (TSSOP, 10-Leads, Body 3x3mm, Pitch 0.5mm, IPC Medium Density)
footprint DGS10_L (TSSOP, 10-Leads, Body 3x3mm, Pitch 0.5mm, IPC High Density)
footprint DGS10_M (TSSOP, 10-Leads, Body 3x3mm, Pitch 0.5mm, IPC Low Density)
pins: 1 EN (in) "Chip-enable input. The converter is switched on if this pin is set high, it is switched off if this pin is connected to GND.", 2 COMP "Compensation of error amplifier. Connect an R/C/C network to set frequency response of control loop.", 3 FB "Feedback input for adjustable output voltage version TPS61010. Output voltage is programmed depending on the output voltage divider connected there. For the fixed output voltage versions, leave FB-pin unconnected.", 4 GND (power) "Ground", 5 VOUT (power) "Output voltage. Internal resistor divider sets regulated output voltage in fixed output voltage versions.", 6 VBAT (power) "Supply pin", 7 SW (power) "Switch input pin. The inductor is connected to this pin.", 8 ADEN (in) "Autodischarge input. The autodischarge function is enabled if this pin is connected to VBAT, it is disabled if ADEN is tied to GND.", 9 LBI (in) "Low-battery detector input. A low battery warning is generated at LBO when the voltage on LBI drops below the threshold of 500 mV. Connect LBI to GND or VBAT if the low-battery detector function is not used. Do not leave (See Datasheet)", 10 LBO (hiz) "Open-drain low-battery detector output. This pin is pulled low if the voltage on LBI drops below the threshold of 500 mV. A pullup resistor must be connected between LBO and VOUT."

## TPS61016DGSRG4
designator U?
Boost Fixed Converter with 0.8 to 3.3 V Input and 3.3 V Output, -40 to 85 degC, 10-Pin MSOP (DGS); Manufacturer: Texas Instruments; PartNumber: TPS61016DGSRG4; Eco-Plan: TBD; Preset Vout(V): 3.3; Regulated Outputs(#): 1; SubFamily: Step-Up Regulator; Switching Frequency(Max)(kHz): 780; Synchronous Rectification: TRUE; Vin(Min)(V): 0.8; DatasheetVersion: SLVS314D; PackageVersion: revC, Feb-2004; PackageReference: DGS10; PackageDescription: 10-Pin Thin Shrink Small Outline Package 0.5 mm Pitch; Supplier 1: Digi-Key; Supplier Part Number 1: TPS61016DGSRG4-ND; Supplier 2: Newark; Supplier Part Number 2: 71J8184; Supplier 3: Mouser; Supplier Part Number 3: 595-TPS61016DGSRG4; Topology: Boost; Vin(Max)(V): 3.3; Vout(Max)(V): 3.3; Vout(Min)(V): 3.3; Mounting Technology: Surface Mount; Code_JEDEC: MO-187-BA; ComponentLink1Description: Datasheet; ComponentLink1URL: http://www.ti.com/general/docs/lit/getliterature.tsp?genericPartNumber=TPS61016&fileType=pdf; ComponentLink2Description: Package Specification; ComponentLink2URL: http://www.ti.com/litv/pdf/mpds373
footprint DGS10_N (TSSOP, 10-Leads, Body 3x3mm, Pitch 0.5mm, IPC Medium Density)
footprint DGS10_L (TSSOP, 10-Leads, Body 3x3mm, Pitch 0.5mm, IPC High Density)
footprint DGS10_M (TSSOP, 10-Leads, Body 3x3mm, Pitch 0.5mm, IPC Low Density)
pins: 1 EN (in) "Chip-enable input. The converter is switched on if this pin is set high, it is switched off if this pin is connected to GND.", 2 COMP "Compensation of error amplifier. Connect an R/C/C network to set frequency response of control loop.", 3 FB "Feedback input for adjustable output voltage version TPS61010. Output voltage is programmed depending on the output voltage divider connected there. For the fixed output voltage versions, leave FB-pin unconnected.", 4 GND (power) "Ground", 5 VOUT (power) "Output voltage. Internal resistor divider sets regulated output voltage in fixed output voltage versions.", 6 VBAT (power) "Supply pin", 7 SW (power) "Switch input pin. The inductor is connected to this pin.", 8 ADEN (in) "Autodischarge input. The autodischarge function is enabled if this pin is connected to VBAT, it is disabled if ADEN is tied to GND.", 9 LBI (in) "Low-battery detector input. A low battery warning is generated at LBO when the voltage on LBI drops below the threshold of 500 mV. Connect LBI to GND or VBAT if the low-battery detector function is not used. Do not leave (See Datasheet)", 10 LBO (hiz) "Open-drain low-battery detector output. This pin is pulled low if the voltage on LBI drops below the threshold of 500 mV. A pullup resistor must be connected between LBO and VOUT."

## TPS61020DRCR
designator U?
Boost Voltage Converter with 0.9 to 6.5 V Input and 1.8 to 5.5 V Output, -40 to 85 degC, 10-Pin SON (DRC), Green (RoHS & no Sb/Br); Manufacturer: Texas Instruments; PartNumber: TPS61020DRCR; Regulated Outputs(#): 1; SubFamily: Step-Up Regulator; Switching Frequency(Max)(kHz): 720; Synchronous Rectification: TRUE; Vin(Max)(V): 6.5; Vin(Min)(V): 0.9; Vout(Max)(V): 5.5; Vout(Min)(V): 1.8; DatasheetVersion: SLVS451F; PackageVersion: revL, Sep-2011; PackageReference: DRC10-2400X1650TP; PackageDescription: 10-Pin Plastic Small Outline No-Lead, 3 x 3 x 1 mm Body, 0.5 mm Pitch, Exposed Pad; Supplier 1: Digi-Key; Supplier Part Number 1: 296-15752-2-ND; Supplier 2: Digi-Key; Supplier Part Number 2: 296-15752-1-ND; Supplier 3: Digi-Key; Supplier Part Number 3: 296-15752-6-ND; Supplier 4: Farnell; Supplier Part Number 4: 7530468; Supplier 5: Newark; Supplier Part Number 5: 87H2894; Supplier 6: Mouser; Supplier Part Number 6: 595-TPS61020DRCR; Eco-Plan: Green (RoHS & no Sb/Br); Topology: Boost; Mounting Technology: Surface Mount; ComponentLink1Description: Datasheet; ComponentLink1URL: http://www.ti.com/general/docs/lit/getliterature.tsp?genericPartNumber=TPS61020&fileType=pdf; ComponentLink2Description: Package Specification; ComponentLink2URL: http://www.ti.com/litv/pdf/mpds117k
footprint DRC10-2400X1650TP (SON, 10-Leads, Body 3x3mm, Pitch 0.5mm, Thermal Pad 2.4x1.65mm, TI Recommended)
pins: 1 EN (in) "Enable input. (1/VBAT enabled, 0/GND disabled)", 2 VOUT (power) "Boost converter output", 3 FB (in) "Voltage feedback of adjustable versions", 4 LBO (hiz) "Low battery comparator output (open drain)", 5 GND (power) "Control / logic ground", 6 VBAT (power) "Supply voltage", 7 LBI (in) "Low battery comparator input (comparator enabled with EN), may not be left floating, should be connected to GND or VBAT if comparator is not used", 8 PS (in) "Enable/disable power save mode (1/VBAT disabled, 0/GND enabled)", 9 SW (power) "Boost and rectifying switch input", 10 PGND (power) "Power ground", 11 PP (power) "Must be soldered to achieve appropriate power dissipation. Should be connected to PGND."

## TPS61020DRCRG4
designator U?
Boost Adjustable Converter with 0.9 to 6.5 V Input and 1.8 to 5.5 V Output, -40 to 85 degC, 10-Pin SON (DRC), Green (RoHS & no Sb/Br); Manufacturer: Texas Instruments; PartNumber: TPS61020DRCRG4; Regulated Outputs(#): 1; SubFamily: Step-Up Regulator; Switching Frequency(Max)(kHz): 720; Synchronous Rectification: TRUE; Vin(Max)(V): 6.5; Vin(Min)(V): 0.9; Vout(Max)(V): 5.5; Vout(Min)(V): 1.8; DatasheetVersion: SLVS451F; PackageVersion: revL, Sep-2011; PackageReference: DRC10-2400X1650TP; PackageDescription: 10-Pin Plastic Small Outline No-Lead, 3 x 3 x 1 mm Body, 0.5 mm Pitch, Exposed Pad; Supplier 1: Digi-Key; Supplier Part Number 1: TPS61020DRCRG4-ND; Supplier 2: Farnell; Supplier Part Number 2: 9969160; Supplier 3: Farnell; Supplier Part Number 3: 9969160RL; Supplier 4: Newark; Supplier Part Number 4: 71J8185; Supplier 5: Mouser; Supplier Part Number 5: 595-TPS61020DRCRG4; Eco-Plan: Green (RoHS & no Sb/Br); Topology: Boost; Mounting Technology: Surface Mount; ComponentLink1Description: Datasheet; ComponentLink1URL: http://www.ti.com/general/docs/lit/getliterature.tsp?genericPartNumber=TPS61020&fileType=pdf; ComponentLink2Description: Package Specification; ComponentLink2URL: http://www.ti.com/litv/pdf/mpds117k
footprint DRC10-2400X1650TP (SON, 10-Leads, Body 3x3mm, Pitch 0.5mm, Thermal Pad 2.4x1.65mm, TI Recommended)
pins: 1 EN (in) "Enable input. (1/VBAT enabled, 0/GND disabled)", 2 VOUT (power) "Boost converter output", 3 FB (in) "Voltage feedback of adjustable versions", 4 LBO (hiz) "Low battery comparator output (open drain)", 5 GND (power) "Control / logic ground", 6 VBAT (power) "Supply voltage", 7 LBI (in) "Low battery comparator input (comparator enabled with EN), may not be left floating, should be connected to GND or VBAT if comparator is not used", 8 PS (in) "Enable/disable power save mode (1/VBAT disabled, 0/GND enabled)", 9 SW (power) "Boost and rectifying switch input", 10 PGND (power) "Power ground", 11 PP (power) "Must be soldered to achieve appropriate power dissipation. Should be connected to PGND."

## TPS61024DRCR
designator U?
Boost Voltage Converter with 0.9 to 6.5 V Input, -40 to 85 degC, 10-Pin SON (DRC), Green (RoHS & no Sb/Br); Manufacturer: Texas Instruments; PartNumber: TPS61024DRCR; Preset Vout(V): 3; Regulated Outputs(#): 1; SubFamily: Step-Up Regulator; Switching Frequency(Max)(kHz): 720; Synchronous Rectification: TRUE; Vin(Max)(V): 6.5; Vin(Min)(V): 0.9; DatasheetVersion: SLVS451F; PackageVersion: revL, Sep-2011; PackageReference: DRC10-2400X1650TP; PackageDescription: 10-Pin Plastic Small Outline No-Lead, 3 x 3 x 1 mm Body, 0.5 mm Pitch, Exposed Pad; Supplier 1: Digi-Key; Supplier Part Number 1: 296-15753-2-ND; Supplier 2: Digi-Key; Supplier Part Number 2: 296-15753-1-ND; Supplier 3: Digi-Key; Supplier Part Number 3: 296-15753-6-ND; Supplier 4: Newark; Supplier Part Number 4: 87H2895; Supplier 5: Mouser; Supplier Part Number 5: 595-TPS61024DRCR; Eco-Plan: Green (RoHS & no Sb/Br); Topology: Boost; Mounting Technology: Surface Mount; ComponentLink1Description: Datasheet; ComponentLink1URL: http://www.ti.com/general/docs/lit/getliterature.tsp?genericPartNumber=TPS61024&fileType=pdf; ComponentLink2Description: Package Specification; ComponentLink2URL: http://www.ti.com/litv/pdf/mpds117k
footprint DRC10-2400X1650TP (SON, 10-Leads, Body 3x3mm, Pitch 0.5mm, Thermal Pad 2.4x1.65mm, TI Recommended)
pins: 1 EN (in) "Enable input. (1/VBAT enabled, 0/GND disabled)", 2 VOUT (power) "Boost converter output", 3 FB "Voltage feedback of adjustable versions", 4 LBO (hiz) "Low battery comparator output (open drain)", 5 GND (power) "Control / logic ground", 6 VBAT (power) "Supply voltage", 7 LBI (in) "Low battery comparator input (comparator enabled with EN), may not be left floating, should be connected to GND or VBAT if comparator is not used", 8 PS (in) "Enable/disable power save mode (1/VBAT disabled, 0/GND enabled)", 9 SW (power) "Boost and rectifying switch input", 10 PGND (power) "Power ground", 11 PP (power) "Must be soldered to achieve appropriate power dissipation. Should be connected to PGND."